# Altium schematic symbol library Schematic Diagrams.SchLib: 350 symbols (part 3 of 9)
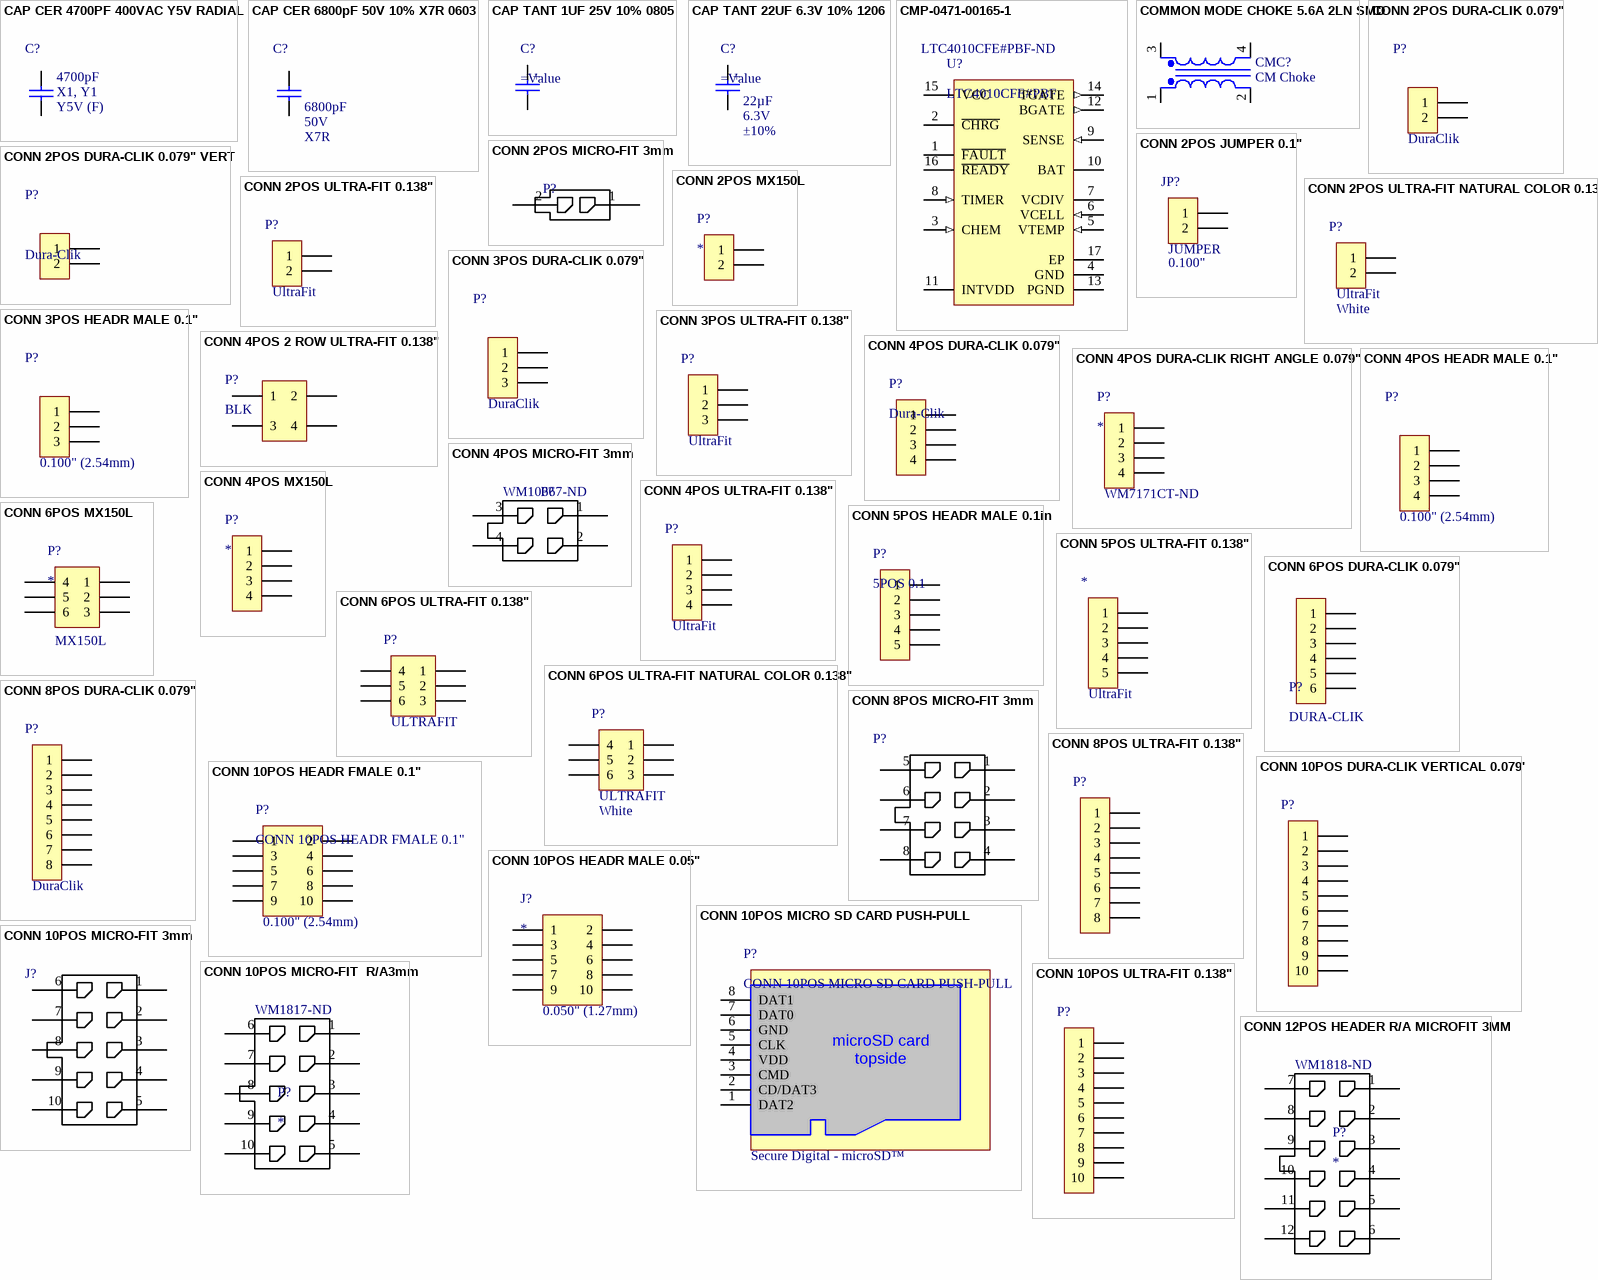
[diagram p13: symbols CAP CER 4700PF 400VAC Y5V RADIAL to CONN 12POS HEADER R/A MICROFIT 3MM]

## CONN 10POS MICRO-FIT 3mm
designator J?  (value not drawn)
Connector Header Through Hole 10 position 0.118" (3.00mm); Manufacturer: Molex, LLC; Manufacturer Part Number: 0430451027; Number of Positions: 10; Number of Positions Loaded: All; Style: Board to Cable/Wire; Shrouding: Shrouded - 4 Wall; Contact Length - Post: 0.125" (3.18mm); Material Flammability Rating: UL94 V-0; Supplier 1: Digi-Key; RoHS: RoHS Compliant; Category: Connectors, Interconnects; Stock 1: 8114; Pricing 1: 1=3.15, 10=2.864, 100=2.455, 500=2.0458, 1224=1.75355, 6120=1.55481 (CAD); Packaging: Tray; Part Status: Active; Connector Type: Header; Contact Type: Male Pin; Pitch - Mating: 0.118" (3.00mm); Number of Rows: 2; Row Spacing - Mating: 0.118" (3.00mm); Mounting Type: Through Hole; Termination: Solder; Fastening Type: Locking Ramp; Contact Length - Mating: -; Overall Contact Length: -; Insulation Height: 0.390" (9.91mm); Contact Shape: Square; Contact Finish - Mating: Tin; Contact Finish Thickness - Mating: 60.0µin (1.52µm); Contact Finish - Post: Tin; Contact Material: Brass; Insulation Material: Liquid Crystal Polymer (LCP), Glass Filled; Features: Board Guide; Operating Temperature: -; Ingress Protection: -; Insulation Color: Black; Current Rating: -; Voltage Rating: -; Mated Stacking Heights: -; Contact Finish Thickness - Post: -; Applications: General Purpose, Medical, Military, Telecommunications; ComponentLink1URL: https://www.molex.com/pdm_docs/sd/430451027_sd.pdf; ComponentLink1Description: https://www.molex.com/pdm_docs/sd/430451027_sd.pdf; Supplier Part Number 1: WM7488-ND
footprint CONN, 10POS MICRO-FIT 3mm
pins: 1, 2, 3, 4, 5, 6, 7, 8, 9, 10

## CONN 10POS MICRO-FIT  R/A3mm
designator P?  Supplier Part Number 1: WM1817-ND
CONN HEADER R/A 10POS 3MM; Manufacturer 1: Molex; Manufacturer Part Number 1: 0430451000; Contact Resistance: 10mR; Number of Positions: 10; Connector Type: Male Pin; Max Voltage Rating (AC): 250V; Row Spacing: 0.118inch; Supplier 1: Digi-Key; RoHS: Yes; Category: Headers and Wire Housings; Stock 1: 2003; Pricing 1: 1=2.57000, 10=2.33100, 100=1.99790, 500=1.66496, 1000=1.42710, 5000=1.26536 (USD); Mount: Through Hole; Color: Black; Contact Plating: Tin; Contact Material: Brass; Housing Color: Black; Housing Material: Polymer; Min Operating Temperature: -40°C; Max Operating Temperature: 105°C; Number of Rows: 2; Packaging: Tray; Termination: Solder; Number of Contacts: 10; Orientation: Right Angle; Fastening Type: Ramp; Length: 19.15mm; Pitch: 3mm; Depth: 12.2mm; Flammability Rating: UL94 V-0; ComponentLink1URL: https://datasheet.ciiva.com/6814/430450202-sd-6814012.pdf?src-supplier=Digi-Key; ComponentLink1Description: https://datasheet.ciiva.com/6814/430450202-sd-6814012.pdf?src-supplier=Digi-Key
footprint CONN, 10POS R/A Microfit
pins: 1, 2, 3, 4, 5, 6, 7, 8, 9, 10

## CONN 10POS ULTRA-FIT 0.138"
designator P?  (value not drawn)
footprint CONN, 10POS ULTRA-FIT
pins: 1, 2, 3, 4, 5, 6, 7, 8, 8 9, 10

## CONN 12POS HEADER R/A MICROFIT 3MM
designator P?  Supplier Part Number 1: WM1818-ND
Conn Power HDR 12 POS 3mm Solder RA Thru-Hole 12 Terminal 1 Port Micro-Fit 3.0™ Tray; Manufacturer 1: Molex; Manufacturer Part Number 1: 0430451200; Contact Resistance: 10mR; Number of Positions: 12; Max Voltage Rating (AC): 250V; Connector Type: Male Pin; Row Spacing: 0.118inch; Supplier 1: Digi-Key; RoHS: Yes; Category: Headers and Wire Housings; Stock 1: 5742; Pricing 1: 1=2.73000, 10=2.62200, 100=2.18500, 500=1.85726, 1000=1.58413, 5000=1.42025 (USD); Mount: Through Hole; Contact Plating: Tin; Contact Material: Brass; Color: Black; Housing Color: Black; Housing Material: Polymer; Min Operating Temperature: -40°C; Max Operating Temperature: 105°C; Number of Rows: 2; Packaging: Tray; Termination: Solder; Number of Contacts: 12; Orientation: Right Angle; Fastening Type: Ramp; Length: 22.15mm; Pitch: 3mm; Depth: 12.2mm; Flammability Rating: UL94 V-0; ComponentLink1URL: https://datasheet.ciiva.com/6814/430450202-sd-6814012.pdf?src-supplier=Digi-Key; ComponentLink1Description: https://datasheet.ciiva.com/6814/430450202-sd-6814012.pdf?src-supplier=Digi-Key
footprint CONN, 12POS R/A Microfit
pins: 1, 2, 3, 4, 5, 6, 7, 8, 9, 10, 11, 12

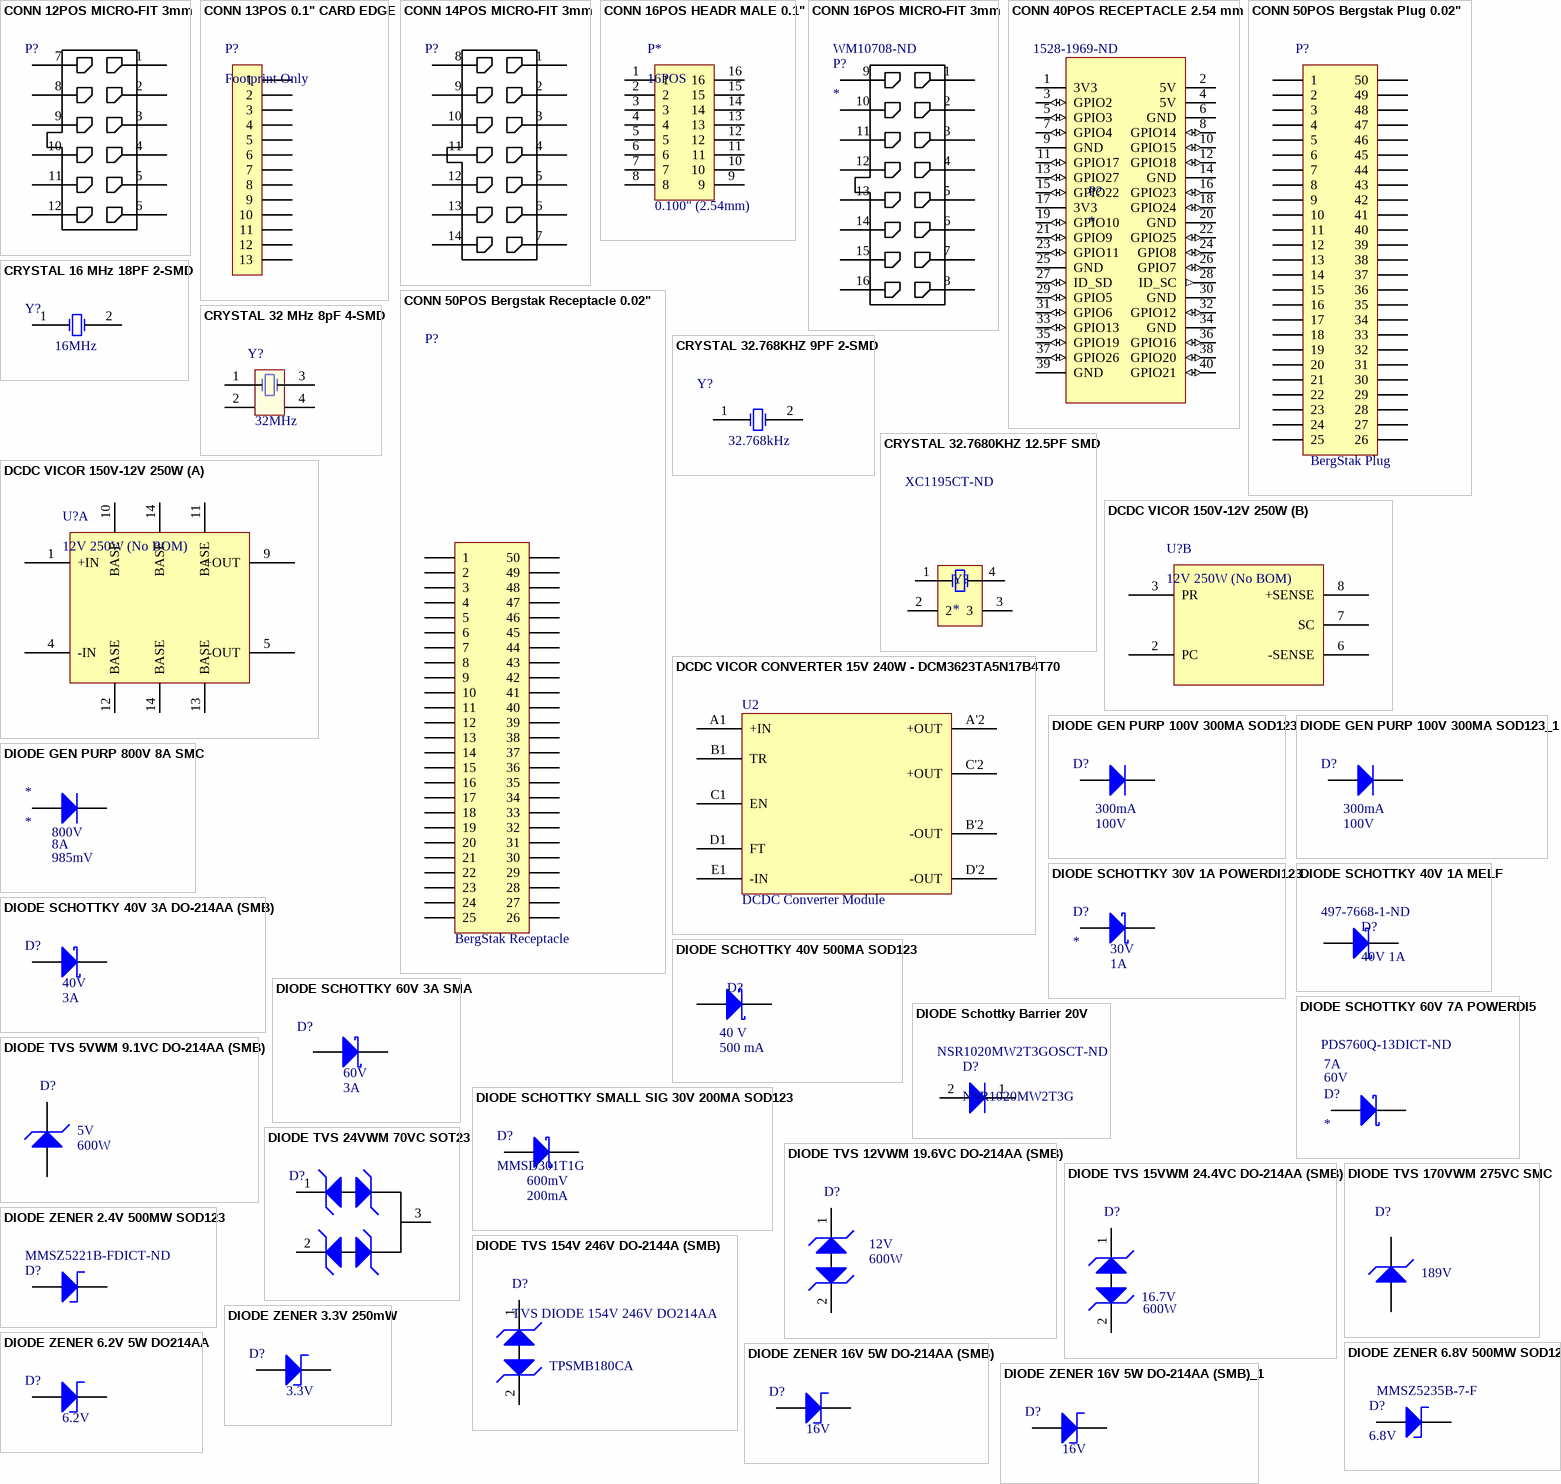
[diagram p2: symbols CONN 12POS MICRO-FIT 3mm to DIODE ZENER 16V 5W DO-214AA (SMB)_1]

## CONN 12POS MICRO-FIT 3mm
designator P?  (value not drawn)
Connector Header Through Hole 12 position 0.118" (3.00mm); Manufacturer: Molex, LLC; Manufacturer Part Number: 0430451227; Number of Positions: 12; Number of Positions Loaded: All; Style: Board to Cable/Wire; Shrouding: Shrouded - 4 Wall; Contact Length - Post: 0.125" (3.18mm); Material Flammability Rating: UL94 V-0; Supplier 1: Digi-Key; RoHS: RoHS Compliant; Category: Connectors, Interconnects; Stock 1: 1709; Pricing 1: 1=3.61, 10=3.283, 25=3.0816, 50=2.9478, 100=2.8138, 250=2.5458, 500=2.34482, 1008=2.00985, 3024=1.87586 (CAD); Packaging: Tray; Part Status: Active; Connector Type: Header; Contact Type: Male Pin; Pitch - Mating: 0.118" (3.00mm); Number of Rows: 2; Row Spacing - Mating: 0.118" (3.00mm); Mounting Type: Through Hole; Termination: Solder; Fastening Type: Locking Ramp; Contact Length - Mating: -; Overall Contact Length: -; Insulation Height: 0.390" (9.91mm); Contact Shape: Square; Contact Finish - Mating: Tin; Contact Finish Thickness - Mating: 60.0µin (1.52µm); Contact Finish - Post: Tin; Contact Material: Brass; Insulation Material: Liquid Crystal Polymer (LCP), Glass Filled; Features: Board Guide; Operating Temperature: -; Ingress Protection: -; Insulation Color: Black; Current Rating: -; Voltage Rating: -; Mated Stacking Heights: -; Contact Finish Thickness - Post: -; Applications: General Purpose, Medical, Military, Telecommunications; ComponentLink1URL: https://www.molex.com/pdm_docs/sd/430451227_sd.pdf; ComponentLink1Description: https://www.molex.com/pdm_docs/sd/430451227_sd.pdf; Supplier Part Number 1: WM10697-ND
footprint CONN, 12POS MICRO-FIT 3mm
pins: 1, 2, 3, 4, 5, 6, 7, 8, 9, 10, 11, 12

## CONN 13POS 0.1" CARD EDGE
designator P?, comment Footprint Only  (no BOM)
footprint CONN 13POS CARD EDGE
pins: 1, 2, 3, 4, 5, 6, 7, 8, 9, 10, 11, 12, 13

## CONN 14POS MICRO-FIT 3mm
designator P?  (value not drawn)
Connector Header Through Hole 14 position 0.118" (3.00mm); Manufacturer: Molex, LLC; Manufacturer Part Number: 0430451427; Number of Positions: 14; Number of Positions Loaded: All; Style: Board to Cable/Wire; Shrouding: Shrouded - 4 Wall; Contact Length - Post: 0.125" (3.18mm); Material Flammability Rating: UL94 V-0; Supplier 1: Digi-Key; RoHS: RoHS Compliant; Category: Connectors, Interconnects; Stock 1: 829; Pricing 1: 1=4.57, 10=4.377, 25=4.0124, 50=3.8296, 100=3.6473, 250=3.1914, 936=2.82666, 1872=2.5531, 2808=2.46192 (CAD); Packaging: Tray; Part Status: Active; Connector Type: Header; Contact Type: Male Pin; Pitch - Mating: 0.118" (3.00mm); Number of Rows: 2; Row Spacing - Mating: 0.118" (3.00mm); Mounting Type: Through Hole; Termination: Solder; Fastening Type: Locking Ramp; Contact Length - Mating: -; Overall Contact Length: -; Insulation Height: 0.390" (9.91mm); Contact Shape: Square; Contact Finish - Mating: Tin; Contact Finish Thickness - Mating: 60.0µin (1.52µm); Contact Finish - Post: Tin; Contact Material: Brass; Insulation Material: Liquid Crystal Polymer (LCP), Glass Filled; Features: Board Guide; Operating Temperature: -; Ingress Protection: -; Insulation Color: Black; Current Rating: -; Voltage Rating: -; Mated Stacking Heights: -; Contact Finish Thickness - Post: -; Applications: General Purpose, Medical, Military, Telecommunications; ComponentLink1URL: https://www.molex.com/pdm_docs/sd/430451427_sd.pdf; ComponentLink1Description: https://www.molex.com/pdm_docs/sd/430451427_sd.pdf; Supplier Part Number 1: WM10707-ND
footprint CONN, 14POS MICRO-FIT 3mm
pins: 1, 2, 3, 4, 5, 6, 7, 8, 9, 10, 11, 12, 13, 14

## CONN 16POS HEADR MALE 0.1"
designator P*, comment 16POS  Pitch - Mating: 0.100" (2.54mm)
CONN HEADER .100" DUAL STR 16POS; Manufacturer 1: Sullins Connector Solutions; Manufacturer Part Number 1: PREC008DAAN-RC; Connector Type: Header, Breakaway; Style: Board to Board or Cable; Shrouding: Unshrouded; Number of Positions: 16; Number of Positions Loaded: All; Contact Length - Mating: 0.230" (5.84mm); Contact Length - Post: 0.120" (3.05mm); Overall Contact Length: 0.448" (11.39mm); Material Flammability Rating: UL94 V-0; Current Rating: 3A per Contact; Supplier 1: Digi-Key; Supplier Part Number 1: S2012EC-08-ND; Packaging: Bulk; Part Status: Active; Contact Type: Male Pin; Number of Rows: 2; Row Spacing - Mating: 0.100" (2.54mm); Mounting Type: Through Hole; Termination: Solder; Fastening Type: -; Insulation Height: 0.098" (2.50mm); Contact Shape: Square; Contact Finish - Mating: Tin; Contact Finish Thickness - Mating: -; Contact Finish - Post: Tin; Contact Material: Brass; Insulation Material: Polybutylene Terephthalate (PBT); Operating Temperature: -40°C ~ 105°C; Ingress Protection: -; Insulation Color: Black; Mated Stacking Heights: -; Contact Finish Thickness - Post: -; ComponentLink1URL: http://sullinscorp.com/drawings/294___R__C_____D___N-RC,_11636.pdf; ComponentLink1Description: http://sullinscorp.com/drawings/294___R__C_____D___N-RC,_11636.pdf; Voltage: -
footprint CONN, 16POS 0.100" Header
pins: 1, 2, 3, 4, 5, 6, 7, 8, 9, 10, 11, 12, 13, 14, 15, 16

## CONN 16POS MICRO-FIT 3mm
designator P?  Supplier Part Number 1: WM10708-ND
Connector Header Through Hole 16 position 0.118"(3.00mm); Manufacturer: Molex; Manufacturer Part Number: 0430451627; Contact Resistance: 10mR; Number of Positions: 16; Number of Ports: 1; Connector Type: Male Pin; Pitch: 3mm; Row Spacing: 0.118inch; Supplier 1: Digi-Key; RoHS: Yes; Stock 1: 4654; Pricing 1: 1 = 3.26000, 10 = 3.12900, 25 = 2.86800, 50 = 2.73780, 100 = 2.60740, 250 = 2.28148, 792 = 2.02073, 1584 = 1.82518, 3168 = 1.75999 (USD); Mount: Through Hole; Color: Black; Contact Material: Brass; Contact Plating: Tin; Number of Terminals: 16; Housing Color: Black; Housing Material: Polymer; Min Operating Temperature: -40°C; Max Operating Temperature: 105°C; Package Quantity: 792; Number of Rows: 2; Fastening Type: Ramp; Packaging: Tray; Termination: Solder; Number of Contacts: 16; Orientation: Straight; Length: 28.15mm; Depth: 8.77mm; ComponentLink1URL: http://www.molex.com/pdm_docs/sd/430451627_sd.pdf; ComponentLink1Description: http://www.molex.com/pdm_docs/sd/430451627_sd.pdf; ComponentLink2URL: http://www.molex.com/webdocs/datasheets/pdf/en-us/0430451627_PCB_HEADERS.pdf; ComponentLink2Description: http://www.molex.com/webdocs/datasheets/pdf/en-us/0430451627_PCB_HEADERS.pdf
footprint CONN, 16POS MICRO-FIT 3MM
pins: 1, 2, 3, 4, 5, 6, 7, 8, 9, 10, 11, 12, 13, 14, 15, 16

## CONN 40POS RECEPTACLE 2.54 mm
designator P?  Supplier Part Number 1: 1528-1969-ND
GPIO HEADER FOR RASPBERRYPI A+/B; Manufacturer: Adafruit Industries; Manufacturer Part Number: 1992; Supplier 1: Digi-Key; Stock 1: 175; Pricing 1: 1=2.95 (USD); ComponentLink1Description: gpio header raspberry pi; ComponentLink1URL: https://www.digikey.ca/product-detail/en/adafruit-industries-llc/1992/1528-1969-ND/6827092
footprint CONN 40POS RECEPTACLE 2.54 MM (gpio header for raspberry pi)
pins: 1 3V3 (power), 2 5V (power), 3 GPIO2 (io), 4 5V (power), 5 GPIO3 (io), 6 GND (power), 7 GPIO4 (io), 8 GPIO14 (io), 9 GND (power), 10 GPIO15 (io), 11 GPIO17 (io), 12 GPIO18 (io), 13 GPIO27 (io), 14 GND (power), 15 GPIO22 (io), 16 GPIO23 (io), 17 3V3 (power), 18 GPIO24 (io), 19 GPIO10 (io), 20 GND (power), 21 GPIO9 (io), 22 GPIO25 (io), 23 GPIO11 (io), 24 GPIO8 (io), 25 GND (power), 26 GPIO7 (io), 27 ID_SD (io), 28 ID_SC (out), 29 GPIO5 (io), 30 GND (power), 31 GPIO6 (io), 32 GPIO12 (io), 33 GPIO13 (io), 34 GND (power), 35 GPIO19 (io), 36 GPIO16 (io), 37 GPIO26 (io), 38 GPIO20 (io), 39 GND (power), 40 GPIO21 (io)

## CONN 50POS Bergstak Plug 0.02"
designator P?  Series: BergStak Plug
50 Position Connector Plug, Outer Shroud Contacts Surface Mount Gold; Manufacturer 1: Amphenol FCI; Manufacturer Part Number 1: 10132797-055100LF; Number of Positions: 50; Mated Stacking Heights: 5mm; Pitch: 0.020" (0.50mm); Supplier 1: Digi-Key; Supplier Part Number 1: 609-5226-1-ND; Packaging: Cut Tape (CT); Part Status: Active; Connector Type: Plug, Outer Shroud Contacts; Number of Rows: 2; Mounting Type: Surface Mount; Contact Finish: Gold; Contact Finish Thickness: 1µin (0.025µm); Height Above Board: 0.169" (4.30mm); ComponentLink1URL: http://portal.fciconnect.com/Comergent//fci/drawing/10132797.pdf; ComponentLink1Description: http://portal.fciconnect.com/Comergent//fci/drawing/10132797.pdf
footprint CONN, Bergstak 50 Pos Plug (Bergstak 50 Position Plug)
pins: 1, 2, 3, 4, 5, 6, 7, 8, 9, 10, 11, 12, 13, 14, 15, 16, 17, 18, 19, 20, 21, 22, 23, 24, 25, 26, 27, 28, 29, 30, 31, 32, 33, 34, 35, 36, 37, 38, 39, 40, 41, 42, 43, 44, 45, 46, 47, 48, 49, 50

## CONN 50POS Bergstak Receptacle 0.02"
designator P?  Series: BergStak Receptacle
50 Position Connector Receptacle, Center Strip Contacts Surface Mount Gold; Manufacturer 1: Amphenol FCI; Manufacturer Part Number 1: 10132798-052100LF; Number of Positions: 50; Mated Stacking Heights: 5mm, 5.5mm, 6mm; Pitch: 0.020" (0.50mm); Supplier 1: Digi-Key; Supplier Part Number 1: 609-5227-1-ND; Packaging: Cut Tape (CT); Part Status: Active; Connector Type: Receptacle, Center Strip Contacts; Number of Rows: 2; Mounting Type: Surface Mount; Contact Finish: Gold; Contact Finish Thickness: 1µin (0.025µm); Height Above Board: 0.106" (2.70mm); ComponentLink1URL: http://portal.fciconnect.com/Comergent//fci/drawing/10132798.pdf; ComponentLink1Description: http://portal.fciconnect.com/Comergent//fci/drawing/10132798.pdf
footprint CONN, Bergstak 50 Pos Receptacle (Bergstak 50 Position Receptacle)
pins: 1, 2, 3, 4, 5, 6, 7, 8, 9, 10, 11, 12, 13, 14, 15, 16, 17, 18, 19, 20, 21, 22, 23, 24, 25, 26, 27, 28, 29, 30, 31, 32, 33, 34, 35, 36, 37, 38, 39, 40, 41, 42, 43, 44, 45, 46, 47, 48, 49, 50

## CRYSTAL 16 MHz 18PF 2-SMD
designator Y?  Frequency: 16MHz  (hidden comment: *)
16MHz ±20ppm Crystal 18pF 40 Ohms 2-SMD, No Lead; Manufacturer: Abracon LLC; Manufacturer Part Number: ABM3-16.000MHZ-D2Y-T; Frequency Stability: ±30ppm; Operating Mode: Fundamental; Supplier 1: Digi-Key; RoHS: RoHS Compliant; Category: Crystals, Oscillators, Resonators; Stock 1: 27142; Pricing 1: 1=1.02, 10=0.858, 50=0.7712, 100=0.6855, 500=0.6512 (CAD); Packaging: Cut Tape (CT); Part Status: Active; Type: MHz Crystal; Frequency Tolerance: ±20ppm; Load Capacitance: 18pF; Operating Temperature: -40°C ~ 85°C; Ratings: -; Mounting Type: Surface Mount; Package / Case: 2-SMD, No Lead; Size / Dimension: 0.197" L x 0.126" W (5.00mm x 3.20mm); Height - Seated (Max): 0.051" (1.30mm); ComponentLink1URL: https://abracon.com/Resonators/abm3.pdf; ComponentLink1Description: https://abracon.com/Resonators/abm3.pdf; Supplier Part Number 1: 535-10638-1-ND
footprint ABM3 CRYSTAL
pins: 1, 2

## CRYSTAL 32 MHz 8pF 4-SMD
designator Y?  Frequency: 32MHz
32MHz ±15ppm Crystal 8pF 50 Ohm -40°C ~ 85°C AEC-Q200 Surface Mount 4-SMD, No Lead; Manufacturer 1: AVX Corp/Kyocera Corp; Manufacturer Part Number 1: CX2520DB32000D0GPSC1; Frequency Stability: ±50ppm; ESR (Equivalent Series Resistance): 50 Ohm; Operating Mode: Fundamental; Supplier 1: Digi-Key; Supplier Part Number 1: 1253-1730-1-ND; Packaging: Cut Tape (CT); Part Status: Active; Type: MHz Crystal; Frequency Tolerance: ±15ppm; Operating Temperature: -40°C ~ 85°C; Ratings: AEC-Q200; Mounting Type: Surface Mount; Package / Case: 4-SMD, No Lead; Size / Dimension: 0.098" L x 0.079" W (2.50mm x 2.00mm); Height - Seated (Max): 0.022" (0.55mm); ComponentLink1URL: http://media.digikey.com/pdf/Data%20Sheets/AVX%20PDFs/CX2520DB_USY1M-H1-16428-00_Spec.pdf; ComponentLink1Description: http://media.digikey.com/pdf/Data%20Sheets/AVX%20PDFs/CX2520DB_USY1M-H1-16428-00_Spec.pdf; Load Capacitance: 8pF
footprint CX2520DB CRYSTAL
pins: 1 OSC1, 2, 3 OSC2, 4 3

## CRYSTAL 32.768KHZ 9PF 2-SMD
designator Y?  Frequency: 32.768kHz
32.768kHz ±20ppm Crystal 6pF 50 kOhm -40°C ~ 85°C Surface Mount 4-SOJ, 5.50mm pitch; Manufacturer 1: Abracon LLC; Manufacturer Part Number 1: ABS07AIG-32.768KHZ-9-1-T; Frequency Tolerance: ±10ppm; Load Capacitance: 9pF; ESR (Equivalent Series Resistance): 70 kOhm; Operating Mode: Fundamental; Supplier 1: Digi-Key; Supplier Part Number 1: 535-13353-1-ND; Packaging: Cut Tape (CT); Part Status: Active; Type: kHz Crystal (Tuning Fork); Frequency Stability: -; Operating Temperature: -40°C ~ 125°C; Ratings: AEC-Q200; Mounting Type: Surface Mount; Package / Case: 2-SMD, No Lead; Size / Dimension: 0.126" L x 0.059" W (3.20mm x 1.50mm); Height - Seated (Max): 0.035" (0.90mm); ComponentLink1URL: http://www.abracon.com/AIGcrystals/ABS07AIG.pdf; ComponentLink1Description: http://www.abracon.com/AIGcrystals/ABS07AIG.pdf
footprint ABS07AIG CRYSTAL
pins: 1, 2

## CRYSTAL 32.7680KHZ 12.5PF SMD
designator Y?  Supplier Part Number 1: XC1195CT-ND
32.768kHz ±20ppm Crystal 12.5pF 50 kOhms 4-SOJ, 5.50mm pitch; Manufacturer: ECS International; Manufacturer Part Number: ECS-.327-12.5-17X-TR; ESR (Equivalent Series Resistance): 50kR; Supplier 1: Digi-Key; Stock 1: 67622; Pricing 1: 1=0.56, 10=0.468, 50=0.4208, 100=0.374, 500=0.3553, 1000=0.2992 (USD); Mount: Surface Mount; Min Operating Temperature: -40°C; Max Operating Temperature: 85°C; Package Quantity: 1; Frequency: 32.768kHz; Frequency Tolerance: 20ppm; Load Capacitance: 12.5pF; Packaging: Tape and Reel; Tolerance: 20ppm; Termination: SMD/SMT; Length: 0.315inch; Height: 0.098inch; Width: 0.15inch; Lead Free: Lead Free; ComponentLink1URL: https://datasheet.ciiva.com/852/ecx-306x-852775.pdf; ComponentLink1Description: https://datasheet.ciiva.com/852/ecx-306x-852775.pdf; ComponentLink2URL: https://datasheet.ciiva.com/852/ecx-306x-852776.pdf; ComponentLink2Description: https://datasheet.ciiva.com/852/ecx-306x-852776.pdf; ComponentLink3URL: https://datasheet.ciiva.com/852/ecx-306x-852777.pdf; ComponentLink3Description: https://datasheet.ciiva.com/852/ecx-306x-852777.pdf
footprint 4-SOJ
pins: 1, 2, 3, 4

## DCDC VICOR 150V-12V 250W
designator U?, comment 12V 250W (No BOM)  (no BOM)
Isolated Module DC DC Converter 1 Output 12V 20.83A 100V - 200V Input; Manufacturer: Vicor Corporation; Manufacturer Part Number: V150B12C250BL; Number of Outputs: 1; Voltage - Isolation: 3kV (3000V); Efficiency: 88.1%; Supplier 1: Digi-Key; RoHS: RoHS non-compliant; Category: Power Supplies - Board Mount; Stock 1: 0; Pricing 1: 1=252.65 (CAD); Packaging: Bulk; Part Status: Active; Type: Isolated Module; Voltage - Input (Min): 100V; Voltage - Input (Max): 200V; Voltage - Output 1: 12V; Voltage - Output 2: -; Voltage - Output 3: -; Current - Output (Max): 20.83A; Applications: ITE (Commercial); Features: OVP, UVLO; Operating Temperature: -20°C ~ 100°C; Mounting Type: Through Hole; Package / Case: 9-DIP Module; Size / Dimension: 2.28" L x 2.20" W x 0.50" H (57.9mm x 55.9mm x 12.7mm); ComponentLink1URL: http://cdn.vicorpower.com/documents/datasheets/ds_150vin-mini-family.pdf; ComponentLink1Description: http://cdn.vicorpower.com/documents/datasheets/ds_150vin-mini-family.pdf; Supplier Part Number 1: 1102-1234-ND
footprint DCDC VICOR 150V-12V 250W
part A pins: 1 +IN, 4 -IN, 5 -OUT, 9 +OUT, 10 BASE, 11 BASE, 12 BASE, 13 BASE, 14 BASE, 14 BASE
part B pins: 2 PC, 3 PR, 6 -SENSE, 7 SC, 8 +SENSE

## DCDC VICOR CONVERTER 15V 240W - DCM3623TA5N17B4T70
designator U2  Type: DCDC Converter Module  (hidden comment: DCDC VICOR CONVERTER 15V 240W - DCM3623TA5N17B4T70)
DC DC CONVERTER 15V 240W; Manufacturer 1: Vicor Corporation; Number of Outputs: 1; Voltage - Input (Min): 154V; Voltage - Input (Max): 43V; Current - Output (Max): 16A; Efficiency: 92.1%; Supplier 1: Digi-Key; Supplier Part Number 1: 1470-2950-1-ND; Packaging: Cut Tape (CT); Part Status: Active; Voltage - Output 1: 15V; Voltage - Output 2: -; Voltage - Output 3: -; Operating Temperature: -40°C ~ 105°C; Mounting Type: Surface Mount; Package / Case: 9-DIP Module; Size / Dimension: 1.52" L x 0.90" W x 0.28" H (38.72mm x 22.8mm x 7.2mm); ComponentLink1URL: http://www.vicorpower.com/documents/datasheets/DCM3623xA5N17B4y7z_ds.pdf; ComponentLink1Description: http://www.vicorpower.com/documents/datasheets/DCM3623xA5N17B4y7z_ds.pdf; Power: 240W; Manufacturer Part Number 1: DCM3623TA5N17B4T70
footprint IC, DCDC converter DCM3623TA5N17B4T70
pins: A1 +IN, A'2 +OUT, B1 TR, B'2 -OUT, C1 EN, C'2 +OUT, D1 FT, D'2 -OUT, E1 -IN

## DIODE GEN PURP 100V 300MA SOD123
designator D?  Max Repetitive Reverse Voltage (Vrrm): 100V  Forward Current: 300mA  (hidden comment: *)
Diode Standard 100V 300mA (DC) Surface Mount SOD-123; Manufacturer: Diodes Zetex; Manufacturer Part Number: 1N4148WQ-7-F; Max Surge Current: 2A; Forward Voltage: 1.25V; Element Configuration: Single; Recovery Time: 4ns; Peak Reverse Current: 50uA; Max Power Dissipation: 400mW; Supplier 1: Digi-Key; Stock 1: 229; Pricing 1: 1=0.22, 10=0.196, 100=0.107, 500=0.0658, 1000=0.0449 (USD); Mount: Surface Mount; Case/Package: SOD-123-2; Number of Pins: 2; Weight: 0.000353oz; Contact Plating: Tin,Matte; Min Operating Temperature: -65°C; Max Operating Temperature: 150°C; Packaging: Tape and Reel; Peak Non-Repetitive Surge Current: 2A; Package Quantity: 3000; Reverse Recovery Time: 4ns; Lead Free: Lead Free; ComponentLink1URL: http://components.arrow.com/part/dataview/0323_07206809; ComponentLink1Description: http://components.arrow.com/part/dataview/0323_07206809; ComponentLink2URL: http://www.diodes.com/datasheets/ds30086.pdf; ComponentLink2Description: http://www.diodes.com/datasheets/ds30086.pdf; ComponentLink3URL: http://www.mouser.com/ds/2/115/ds30086-318161.pdf; ComponentLink3Description: http://www.mouser.com/ds/2/115/ds30086-318161.pdf; Supplier Part Number 1: 1N4148WQ-7-FDICT-ND
footprint DIODE GEN PURP 100V 300MA SOD123 (Diode Standard 100V 300mA (DC) Surface Mount SOD-123)
pins: 1 A, 2 K

## DIODE GEN PURP 100V 300MA SOD123_1
designator D?  Max Repetitive Reverse Voltage (Vrrm): 100V  Forward Current: 300mA  (hidden comment: *)
Diode Standard 100V 300mA (DC) Surface Mount SOD-123; Manufacturer: Diodes Zetex; Manufacturer Part Number: 1N4148WQ-7-F; Max Surge Current: 2A; Forward Voltage: 1.25V; Element Configuration: Single; Recovery Time: 4ns; Peak Reverse Current: 50uA; Max Power Dissipation: 400mW; Supplier 1: Digi-Key; Stock 1: 229; Pricing 1: 1=0.22, 10=0.196, 100=0.107, 500=0.0658, 1000=0.0449 (USD); Mount: Surface Mount; Case/Package: SOD-123-2; Number of Pins: 2; Weight: 0.000353oz; Contact Plating: Tin,Matte; Min Operating Temperature: -65°C; Max Operating Temperature: 150°C; Packaging: Tape and Reel; Peak Non-Repetitive Surge Current: 2A; Package Quantity: 3000; Reverse Recovery Time: 4ns; Lead Free: Lead Free; ComponentLink1URL: http://components.arrow.com/part/dataview/0323_07206809; ComponentLink1Description: http://components.arrow.com/part/dataview/0323_07206809; ComponentLink2URL: http://www.diodes.com/datasheets/ds30086.pdf; ComponentLink2Description: http://www.diodes.com/datasheets/ds30086.pdf; ComponentLink3URL: http://www.mouser.com/ds/2/115/ds30086-318161.pdf; ComponentLink3Description: http://www.mouser.com/ds/2/115/ds30086-318161.pdf; Supplier Part Number 1: 1N4148WQ-7-FDICT-ND
footprint DIODE GEN PURP 100V 300MA SOD123 (Diode Standard 100V 300mA (DC) Surface Mount SOD-123)
pins: 1 A, 2 K

## DIODE GEN PURP 800V 8A SMC
designator *  Forward Voltage: 985mV  Max Reverse Voltage (DC): 800V  Forward Current: 8A
Manufacturer: Diodes; Manufacturer Part Number: S8KC-13; Peak Reverse Current: 10uA; Max Surge Current: 200A; Element Configuration: Single; Supplier 1: Digi-Key; Stock 1: 38298; Pricing 1: 1=0.68, 10=0.598, 100=0.4586, 500=0.36256, 1000=0.29005 (USD); Mount: Surface Mount; Case/Package: SMC; Number of Pins: 2; Weight: 0.007408oz; Contact Plating: Tin,Matte; Min Operating Temperature: -65°C; Max Operating Temperature: 150°C; Packaging: Tape and Reel; Package Quantity: 3000; Reverse Voltage (DC): 800V; Average Rectified Current: 8A; Max Repetitive Reverse Voltage (Vrrm): 800V; Peak Non-Repetitive Surge Current: 200A; Max Forward Surge Current (Ifsm): 200A; Length: 7.11mm; Height: 2.42mm; Width: 6.22mm; Radiation Hardening: No; Lead Free: Lead Free; ComponentLink1URL: https://datasheet.ciiva.com/15144/getdatasheetpartid-61102-15144323.pdf; ComponentLink1Description: https://datasheet.ciiva.com/15144/getdatasheetpartid-61102-15144323.pdf; ComponentLink2URL: https://datasheet.ciiva.com/16388/ds31117-16388346.pdf; ComponentLink2Description: https://datasheet.ciiva.com/16388/ds31117-16388346.pdf; ComponentLink3URL: https://datasheet.ciiva.com/914/ds31117-914779.pdf; ComponentLink3Description: https://datasheet.ciiva.com/914/ds31117-914779.pdf; ComponentLink4URL: https://datasheet.ciiva.com/4453/ds31117-63855-4453947.pdf; ComponentLink4Description: https://datasheet.ciiva.com/4453/ds31117-63855-4453947.pdf; Supplier Part Number 1: S8KCDICT-ND
footprint DIODE, SMC
pins: 1 K, 2 A

## DIODE SCHOTTKY 30V 1A POWERDI123
designator D?  Current - Average Rectified (Io): 1A  Voltage - DC Reverse (Vr) (Max): 30V
Diode Schottky 30V 1A Surface Mount PowerDI™ 123; Manufacturer: Diodes Incorporated; Manufacturer Part Number: DFLS130L-7; Speed: Fast Recovery =< 500ns, > 200mA (Io); Current - Reverse Leakage @ Vr: 1mA @ 30V; Capacitance @ Vr, F: 76pF @ 10V, 1MHz; Voltage - Forward (Vf) (Max) @ If: 310mV @ 1A; Supplier 1: Digi-Key; RoHS: RoHS Compliant; Category: Discrete Semiconductor Products; Stock 1: 68200; Packaging: Cut Tape (CT); Part Status: Active; Diode Type: Schottky; Mounting Type: Surface Mount; Package / Case: POWERDI®123; Supplier Device Package: PowerDI™ 123; Operating Temperature - Junction: -40°C ~ 125°C; ComponentLink1URL: https://www.diodes.com/assets/Datasheets/ds30492.pdf; ComponentLink1Description: https://www.diodes.com/assets/Datasheets/ds30492.pdf; Supplier Part Number 1: DFLS130LDICT-ND; Pricing 1: 1=0.7, 10=0.599, 100=0.447, 500=0.35126, 1000=0.27142 (CAD)
footprint DIODE SCHOTTKY 30V 1A POWERDI123 (Diodes Incorporated DFLS130L-7)
pins: 1 A, 2 K

## DIODE SCHOTTKY 40V 1A MELF
designator D?, comment 40V 1A  Supplier Part Number 1: 497-7668-1-ND
Diode Schottky 40V 1A Surface Mount MELF; Supplier 1: Digi-Key; ComponentLink1Description: datasheet; ComponentLink1URL: https://www.st.com/content/ccc/resource/technical/document/datasheet/93/3a/6a/2f/b2/cc/4d/48/CD00000811.pdf/files/CD00000811.pdf/jcr:content/translations/en.CD00000811.pdf
footprint MELF
pins: 1 A, 2 K

## DIODE SCHOTTKY 40V 3A DO-214AA (SMB)
designator D?  Voltage - DC Reverse (Vr) (Max): 40V  Current - Average Rectified (Io): 3A
Diode Schottky 40V 3A Surface Mount DO-214AA (SMB); Manufacturer 1: Comchip Technology; Manufacturer Part Number 1: CDBB340-HF; Voltage - Forward (Vf) (Max) @ If: 500mV @ 3A; Speed: Fast Recovery =< 500ns, > 200mA (Io); Current - Reverse Leakage @ Vr: 500µA @ 40V; Capacitance @ Vr, F: 250pF @ 4V, 1MHz; Supplier 1: Digi-Key; Supplier Part Number 1: 641-1722-1-ND; Packaging: Cut Tape (CT); Part Status: Active; Diode Type: Schottky; Mounting Type: Surface Mount; Package / Case: DO-214AA, SMB; Supplier Device Package: DO-214AA (SMB); Operating Temperature - Junction: -40°C ~ 70°C; ComponentLink1URL: http://www.comchiptech.com/cms/UserFiles/CDBB340-HF%20Thru849517.%20CDBB3100-HF%20RevE.pdf; ComponentLink1Description: http://www.comchiptech.com/cms/UserFiles/CDBB340-HF%20Thru849517.%20CDBB3100-HF%20RevE.pdf
footprint DO-214AA Diode (Zener Diode 16V 5W SMBJ5353B-TP)
pins: 1 A, 2 K

## DIODE SCHOTTKY 40V 500MA SOD123
designator D?  (value not drawn)
Diode Schottky 40V 500mA Surface Mount SOD-123; Manufacturer: ON Semiconductor / Fairchild; Manufacturer Part Number: MBR0540; Peak Reverse Current: 20uA; Max Surge Current: 5.5A; Forward Voltage: 620mV; Power Dissipation: 400mW; Element Configuration: Single; Polarity: Standard; Current Rating: 500A; ComponentLink1Description: datasheet; ComponentLink1URL: https://www.onsemi.cn/PowerSolutions/document/MBR0540-D.pdf; ComponentLink2Description: supplier link; ComponentLink2URL: https://www.onsemi.com/PowerSolutions/product.do?id=MBR0540; Supplier 1: Digi-Key; Stock 1: 414620; Pricing 1: 1=0.2, 10=0.166, 100=0.0881, 500=0.05794, 1000=0.0394 (USD); Mount: Surface Mount; Number of Pins: 2; Weight: 0.03g; Contact Plating: Tin,Matte; Min Operating Temperature: -65°C; Max Operating Temperature: 125°C; Forward Current: 500mA; Package Quantity: 3000; Packaging: Tape and Reel; Average Rectified Current: 500mA; Max Reverse Leakage Current: 20uA; Max Repetitive Reverse Voltage (Vrrm): 40V; Peak Non-Repetitive Surge Current: 5.5A; Max Forward Surge Current (Ifsm): 5.5A; Voltage Rating (DC): 40V; Output Current: 500mA; Max Reverse Voltage (DC): 40V; Length: 2.7mm; Height: 1.03mm; Width: 1.6mm; Radiation Hardening: No; REACH SVHC: No SVHC; Lead Free: Lead Free; ComponentLink3URL: https://www.fairchildsemi.com/datasheets/MB/MBR0540.pdf?src-supplier=Digi-Key; ComponentLink3Description: https://www.fairchildsemi.com/datasheets/MB/MBR0540.pdf?src-supplier=Digi-Key; ComponentLink4URL: https://www.onsemi.cn/PowerSolutions/document/MBR0540-D.pdf?src-supplier=Digi-Key; ComponentLink4Description: https://www.onsemi.cn/PowerSolutions/document/MBR0540-D.pdf?src-supplier=Digi-Key; ComponentLink5URL: http://www.jameco.com/Jameco/Products/ProdDS/975060.pdf?src-supplier=Jameco; ComponentLink5Description: http://www.jameco.com/Jameco/Products/ProdDS/975060.pdf?src-supplier=Jameco; ComponentLink6URL: http://www.mouser.com/ds/2/149/MBR0540-90522.pdf?src-supplier=Mouser; ComponentLink6Description: http://www.mouser.com/ds/2/149/MBR0540-90522.pdf?src-supplier=Mouser; ComponentLink7URL: https://www.verical.com/server-webapp/html/getDatasheet?partID=110131&src-supplier=Verical; ComponentLink7Description: https://www.verical.com/server-webapp/html/getDatasheet?partID=110131&src-supplier=Verical; ComponentLink8URL: http://www.farnell.com/datasheets/2041480.pdf?src-supplier=Element14; ComponentLink8Description: http://www.farnell.com/datasheets/2041480.pdf?src-supplier=Element14; ComponentLink9URL: https://www.fairchildsemi.com/datasheets/MB/MBR0540.pdf?src-supplier=Avnet; ComponentLink9Description: https://www.fairchildsemi.com/datasheets/MB/MBR0540.pdf?src-supplier=Avnet; Supplier Part Number 1: MBR0540DKR-ND
footprint SOD123 (SODFL, 2-Leads, Body 1.60x3.75mm, IPC Medium Density)
pins: 1 A, 2 K
text: 40 V; 500 mA

## DIODE SCHOTTKY 60V 3A SMA
designator D?  Voltage - DC Reverse (Vr) (Max): 60V  Current - Average Rectified (Io): 3A
Diode Schottky 60V 3A Surface Mount SMA; Manufacturer 1: Diodes Incorporated; Manufacturer Part Number 1: B360A-13-F; Voltage - Forward (Vf) (Max) @ If: 700mV @ 3A; Speed: Fast Recovery =< 500ns, > 200mA (Io); Current - Reverse Leakage @ Vr: 500µA @ 60V; Capacitance @ Vr, F: 200pF @ 4V, 1MHz; Supplier 1: Digi-Key; Supplier Part Number 1: B360A-FDICT-ND; Packaging: Cut Tape (CT); Part Status: Active; Diode Type: Schottky; Mounting Type: Surface Mount; Package / Case: DO-214AC, SMA; Supplier Device Package: SMA; Operating Temperature - Junction: -55°C ~ 150°C; ComponentLink1URL: https://www.diodes.com/assets/Datasheets/ds30891.pdf; ComponentLink1Description: https://www.diodes.com/assets/Datasheets/ds30891.pdf
footprint Diode, SMA
pins: 1, 2

## DIODE SCHOTTKY 60V 7A POWERDI5
designator D?  Current - Average Rectified (Io): 7A  Supplier Part Number 2: PDS760Q-13DICT-ND  Voltage: 60V
Diode Schottky 60V 7A Surface Mount PowerDI™ 5; Manufacturer: Diodes Incorporated; Manufacturer Part Number: PDS760Q-13; Speed: Fast Recovery =< 500ns, > 200mA (Io); Supplier 1: Digi-Key; RoHS: RoHS Compliant; Category: Discrete Semiconductor Products; Stock 1: 35000; Pricing 1: 5000=0.48794, 10000=0.4696 (CAD); Packaging: Tape & Reel (TR); Part Status: Active; Diode Type: Schottky; Capacitance @ Vr, F: -; Mounting Type: Surface Mount; Package / Case: PowerDI™ 5; Supplier Device Package: PowerDI™ 5; Operating Temperature - Junction: -65°C ~ 150°C; ComponentLink1URL: https://www.diodes.com/assets/Datasheets/PDS760Q.pdf; ComponentLink1Description: https://www.diodes.com/assets/Datasheets/PDS760Q.pdf; Supplier 2: Digi-Key; Stock 2: 36638; Pricing 2: 1=1.24, 10=1.115, 100=0.8692, 500=0.71798, 1000=0.56682 (CAD)
footprint DIODE SCHOTTKY 60V 7A POWERDI5 (Diode Schottky 60V 7A Surface Mount PowerDI™ 5)
pins: 1, 2

## DIODE Schottky Barrier 20V
designator D?, comment NSR1020MW2T3G  Supplier Part Number 1: NSR1020MW2T3GOSCT-ND
Schottky Barrier Diode, 2-Pin SOD-323, Pb-Free, Tape and Reel; Manufacturer: On Semiconductor; IFSM Max (A): 5; Configuration: Single; PartNumber: NSR1020MW2T3G; RoHS: TRUE; ComponentLink2Description: Datasheet; PackageVersion: Rev. H, 03/2007; ComponentLink3Description: Package Specification; ComponentLink1Description: Manufacturer URL; DatasheetVersion: Rev. 1; PackageDescription: 2-Pin SOD, Body 1.7 x 1.25 mm; ComponentLink2URL: http://www.onsemi.cn/pub_link/Collateral/NSR1020MW2T1-D.PDF; Packing: Tape and Reel; ComponentLink3URL: http://www.onsemi.com/pub_link/Collateral/477-02.PDF.1; PackageReference: SOD-323-2-477-02; ComponentLink1URL: http://www.onsemi.com/; Mounting Technology: Surface Mount; Supplier 1: Digi-Key
footprint ONSC-SOD-323-2-477-02_V (SOD, 2-Leads, Body 1.7x1.25mm)
pins: 1 K, 2 A

## DIODE SCHOTTKY SMALL SIG 30V 200MA SOD123
designator D?, comment MMSD301T1G  Forward Voltage: 600mV  Forward Current: 200mA
Diode Schottky 30V 200mA (DC) Surface Mount SOD-123; Manufacturer 1: ON Semiconductor; Description 1: DIODE SCHOTTKY 30V 200MA SOD123; Polarity: Standard; Current Rating: 100mA; Peak Reverse Current: 200nA; Max Forward Surge Current (Ifsm): 1A; Power Dissipation: 225mW; Element Configuration: Single; Supplier 1: Digi-Key; Supplier Part Number 1: MMSD301T1GOSCT-ND; Manufacturer Part Number 1: MMSD301T1G; Stock 1: 23461; Pricing 1: 1=0.37, 10=0.301, 100=0.1597, 500=0.1051, 1000=0.0714 (USD); Case/Package: SOD-123-2; Number of Pins: 2; Contact Plating: Tin,Matte; Min Operating Temperature: -55°C; Max Operating Temperature: 125°C; Packaging: Tape and Reel; Voltage Rating (DC): 30V; Output Current: 200mA; Package Quantity: 3000; Max Reverse Leakage Current: 200nA; Reverse Voltage (DC): 30V; Average Rectified Current: 200mA; Max Repetitive Reverse Voltage (Vrrm): 30V; Termination: SMD/SMT; Max Reverse Voltage (DC): 30V; Length: 2.84mm; Height: 1.25mm; Width: 1.8mm; Radiation Hardening: No; REACH SVHC: No SVHC; Lead Free: Lead Free; ComponentLink1URL: https://datasheet.ciiva.com/927/mmsd301t1-d-927472.pdf; ComponentLink1Description: https://datasheet.ciiva.com/927/mmsd301t1-d-927472.pdf; ComponentLink2URL: https://datasheet.ciiva.com/5763/85966-5763040.pdf; ComponentLink2Description: https://datasheet.ciiva.com/5763/85966-5763040.pdf; ComponentLink3URL: https://datasheet.ciiva.com/915/mmsd301t1-d-915476.pdf; ComponentLink3Description: https://datasheet.ciiva.com/915/mmsd301t1-d-915476.pdf; ComponentLink4URL: https://datasheet.ciiva.com/915/mmsd301t1-d-915477.pdf; ComponentLink4Description: https://datasheet.ciiva.com/915/mmsd301t1-d-915477.pdf; ComponentLink5URL: https://datasheet.ciiva.com/915/mmsd301t1-d-915478.pdf; ComponentLink5Description: https://datasheet.ciiva.com/915/mmsd301t1-d-915478.pdf; ComponentLink6URL: https://datasheet.ciiva.com/25947/mmsd301t1-d-25947942.pdf; ComponentLink6Description: https://datasheet.ciiva.com/25947/mmsd301t1-d-25947942.pdf; ComponentLink7URL: https://datasheet.ciiva.com/8299/mmsd301t1-d-8299881.pdf; ComponentLink7Description: https://datasheet.ciiva.com/8299/mmsd301t1-d-8299881.pdf; ComponentLink8URL: https://datasheet.ciiva.com/16215/mmsd301t1-d-16215580.pdf; ComponentLink8Description: https://datasheet.ciiva.com/16215/mmsd301t1-d-16215580.pdf
footprint DIODE SOD123
pins: 1, 2

## DIODE TVS 5VWM 9.1VC DO-214AA (SMB)
designator D?  Voltage - Reverse Standoff (Typ): 5V  Power - Peak Pulse: 600W  (hidden comment: *)
TVS DIODE 5V 9.1V DO214AA; Manufacturer: Vishay Semiconductor Diodes Division; Manufacturer Part Number: SMBJ5.0D-M3/H; Type: Zener; Voltage - Breakdown (Min): 6.5V; Current - Peak Pulse (10/1000µs): 65.9A; Power Line Protection: No; Supplier 1: Digi-Key; RoHS: RoHS Compliant; Category: Circuit Protection; Stock 1: 6900; Pricing 1: 1=0.51, 10=0.416, 25=0.3808, 100=0.2833, 250=0.25668 (CAD); Packaging: Cut Tape (CT); Part Status: Active; Voltage - Clamping (Max) @ Ipp: 9.1V; Applications: General Purpose; Capacitance @ Frequency: -; Operating Temperature: -55°C ~ 150°C (TJ); Mounting Type: Surface Mount; Package / Case: DO-214AA, SMB; Supplier Device Package: DO-214AA (SMBJ); ComponentLink1URL: http://www.vishay.com/docs/87606/87606.pdf; ComponentLink1Description: http://www.vishay.com/docs/87606/87606.pdf; Supplier Part Number 1: SMBJ5.0D-M3/HGICT-ND
footprint DO-214AA Diode (Zener Diode 16V 5W SMBJ5353B-TP)
pins: 1, 2

## DIODE TVS 12VWM 19.6VC DO-214AA (SMB)
designator D?  Voltage - Reverse Standoff (Typ): 12V  Power - Peak Pulse: 600W  (hidden comment: *)
TVS DIODE 12V 19.6V DO214AA; Manufacturer: Vishay Semiconductor Diodes Division; Manufacturer Part Number: SMBJ12CD-M3/H; Type: Zener; Voltage - Breakdown (Min): 13.5V; Current - Peak Pulse (10/1000µs): 30.6A; Power Line Protection: No; Supplier 1: Digi-Key; RoHS: RoHS Compliant; Category: Circuit Protection; Stock 1: 4469; Pricing 1: 1=0.69, 10=0.565, 25=0.516, 100=0.3841, 250=0.34808 (CAD); Packaging: Cut Tape (CT); Part Status: Active; Voltage - Clamping (Max) @ Ipp: 19.6V; Applications: General Purpose; Capacitance @ Frequency: -; Operating Temperature: -55°C ~ 150°C (TJ); Mounting Type: Surface Mount; Package / Case: DO-214AA, SMB; Supplier Device Package: DO-214AA (SMBJ); ComponentLink1URL: http://www.vishay.com/docs/87606/87606.pdf; ComponentLink1Description: http://www.vishay.com/docs/87606/87606.pdf; Supplier Part Number 1: SMBJ12CD-M3/HGICT-ND
footprint DO-214AA Diode (Zener Diode 16V 5W SMBJ5353B-TP)
pins: 1 Cathode1, 2 Cathode2

## DIODE TVS 15VWM 24.4VC DO-214AA (SMB)
designator D?  Voltage - Breakdown (Min): 16.7V  Power - Peak Pulse: 600W  (hidden comment: *)
TVS DIODE 15VWM 24.4VC SMB; Manufacturer 1: Fairchild/ON Semiconductor; Manufacturer Part Number 1: SMBJ15CA; Type: Zener; Voltage - Reverse Standoff (Typ): 15V; Voltage - Clamping (Max) @ Ipp: 24.4V; Current - Peak Pulse (10/1000µs): 24.6A; Power Line Protection: No; Supplier 1: Digi-Key; Supplier Part Number 1: SMBJ15CAFSCT-ND; RoHS: RoHS Compliant; Description 1: TVS DIODE 15VWM 24.4VC SMB; Category: Circuit Protection; Stock 1: 24965; Pricing 1: 1=0.54, 10=0.444, 100=0.3027, 500=0.22704, 1000=0.17028 (CAD); Packaging: Cut Tape (CT); Part Status: Active; Applications: General Purpose; Capacitance @ Frequency: -; Operating Temperature: -55°C ~ 150°C (TJ); Mounting Type: Surface Mount; Package / Case: DO-214AA, SMB; Supplier Device Package: DO-214AA (SMB); ComponentLink1URL: https://www.fairchildsemi.com/datasheets/SM/SMBJ10CA.pdf; ComponentLink1Description: https://www.fairchildsemi.com/datasheets/SM/SMBJ10CA.pdf
footprint DO-214AA Diode (Zener Diode 16V 5W SMBJ5353B-TP)
pins: 1 Cathode1, 2 Cathode2

## DIODE TVS 24VWM 70VC SOT23
designator D?
TVS DIODE 24VWM 70VC SOT23; Manufacturer 1: Nexperia USA Inc.; Manufacturer Part Number 1: PESD1CAN,215; Type: Zener; Voltage - Breakdown (Min): 25.4V; Voltage - Clamping (Max) @ Ipp: 70V; Current - Peak Pulse (10/1000µs): 3A (8/20µs); Power - Peak Pulse: 200W; Power Line Protection: No; Capacitance @ Frequency: 11pF @ 1MHz; Supplier 1: Digi-Key; Supplier Part Number 1: 1727-3817-1-ND; Packaging: Cut Tape (CT); Part Status: Active; Operating Temperature: -65°C ~ 150°C (TA); Mounting Type: Surface Mount; Package / Case: TO-236-3, SC-59, SOT-23-3; Supplier Device Package: SOT-23 (TO-236AB); ComponentLink1URL: http://assets.nexperia.com/documents/data-sheet/PESD1CAN.pdf; ComponentLink1Description: http://assets.nexperia.com/documents/data-sheet/PESD1CAN.pdf
footprint MOSFET P-CH 30V 3.8A SOT-23 (SOT23, 3-Leads, Body 2.85x2.40mm, Pitch 0.90mm, IPC Medium Density)
pins: 1 Cathode1, 2 Cathode2, 3 Common_Cathode (power)

## DIODE TVS 154V 246V DO-2144A (SMB)
designator D?, comment TVS DIODE 154V 246V DO214AA  Manufacturer Part Number: TPSMB180CA
Manufacturer: Littelfuse; Supplier 1: Digi-Key; Stock 1: 2900; Pricing 1: 1=0.84, 10=0.734, 25=0.6504, 100=0.5664, 250=0.493, 500=0.41958, 1000=0.33566 (USD); Supplier Part Number 1: F10356CT-ND
footprint DIODE TVS TPSMB 600W DO-214AA SMB (Littlefuse TPSMB)
pins: 1 Cathode1, 2 Cathode2

## DIODE TVS 170VWM 275VC SMC
designator D?  Voltage - DC Reverse (Vr) (Max): 189V
TVS DIODE 170VWM 275VC SMC; Manufacturer 1: Diodes Incorporated; Manufacturer Part Number 1: B360A-13-F; Diode Type: Schottky; Voltage - Forward (Vf) (Max) @ If: 700mV @ 3A; Speed: Fast Recovery =< 500ns, > 200mA (Io); Current - Reverse Leakage @ Vr: 500µA @ 60V; Capacitance @ Vr, F: 200pF @ 4V, 1MHz; Type: Zener; Voltage - Reverse Standoff (Typ): 170V; Voltage - Clamping (Max) @ Ipp: 275V; Current - Peak Pulse (10/1000µs): 5.5A; Power - Peak Pulse: 1500W (1.5kW); Power Line Protection: No; Supplier 1: Digi-Key; Supplier Part Number 1: B360A-FDICT-ND; Packaging: Cut Tape (CT); Part Status: Active; Mounting Type: Surface Mount; Package / Case: DO-214AC, SMA; Supplier Device Package: SMA; Operating Temperature - Junction: -55°C ~ 150°C; ComponentLink1URL: https://www.diodes.com/assets/Datasheets/ds30891.pdf; ComponentLink1Description: https://www.diodes.com/assets/Datasheets/ds30891.pdf; Supplier 2: Digi-Key; Supplier Part Number 2: SMCJ170A-FDICT-ND; Manufacturer 2: Diodes Incorporated; Manufacturer Part Number 2: SMCJ170A-13-F; RoHS: RoHS Compliant; Description 2: TVS DIODE 170VWM 275VC SMC; Category: Circuit Protection; Stock 2: 8020; Pricing 2: 1=0.97, 10=0.827, 100=0.6174, 500=0.48508, 1000=0.37484 (CAD); Voltage - Breakdown (Min): 189V; Applications: General Purpose; Capacitance @ Frequency: -; Operating Temperature: -55°C ~ 150°C (TJ); ComponentLink2URL: https://www.diodes.com/assets/Datasheets/ds19003.pdf; ComponentLink2Description: https://www.diodes.com/assets/Datasheets/ds19003.pdf
footprint DIODE, SMC
pins: 1, 2

## DIODE ZENER 2.4V 500MW SOD123
designator D?  Supplier Part Number 1: MMSZ5221B-FDICT-ND
Zener Diode 2.4V 500mW ±5% Surface Mount SOD-123; Manufacturer 1: Diodes; Manufacturer Part Number 1: MMSZ5221B-7-F; Max Reverse Leakage Current: 100uA; Element Configuration: Single; Forward Voltage: 900mV; Impedance: 30R; Test Current: 20mA; Supplier 1: Digi-Key; Stock 1: 37190; Pricing 1: 1=0.19000, 10=0.17800, 100=0.07440, 500=0.05840, 1000=0.04056 (USD); RoHS: Yes; Mount: Surface Mount; Case/Package: SOD-123-2; Number of Pins: 2; Weight: 0.000353oz; Min Operating Temperature: -65°C; Max Operating Temperature: 150°C; Max Power Dissipation: 500mW; Zener Voltage: 2.4V; Packaging: Tape and Reel; Package Quantity: 3000; Tolerance: 5%; Voltage Tolerance: 5%; Power Dissipation: 500mW; Zener Current: 100uA; Working Voltage: 2.4V; Peak Reverse Current: 100uA; Termination: SMD/SMT; Power Rating: 500mW; Voltage Rating (DC): 2.4V; Length: 3.85mm; Height: 1.35mm; Width: 1.7mm; Radiation Hardening: No; Lead Free: Lead Free; ComponentLink1URL: https://datasheet.ciiva.com/34302/1541079-34302404.pdf?src-supplier=Jameco; ComponentLink1Description: https://datasheet.ciiva.com/34302/1541079-34302404.pdf?src-supplier=Jameco; ComponentLink2URL: https://datasheet.ciiva.com/15142/getdatasheetpartid-61111-15142284.pdf?src-supplier=Verical; ComponentLink2Description: https://datasheet.ciiva.com/15142/getdatasheetpartid-61111-15142284.pdf?src-supplier=Verical; ComponentLink3URL: https://datasheet.ciiva.com/4734/ds18010-38133-4734214.pdf?src-supplier=Mouser; ComponentLink3Description: https://datasheet.ciiva.com/4734/ds18010-38133-4734214.pdf?src-supplier=Mouser; ComponentLink4URL: https://datasheet.ciiva.com/890/ds18010-890793.pdf?src-supplier=Digi-Key; ComponentLink4Description: https://datasheet.ciiva.com/890/ds18010-890793.pdf?src-supplier=Digi-Key; ComponentLink5URL: https://datasheet.ciiva.com/890/ds18010-890794.pdf?src-supplier=Digi-Key; ComponentLink5Description: https://datasheet.ciiva.com/890/ds18010-890794.pdf?src-supplier=Digi-Key
footprint DIODE SOD123
pins: 1 K, 2 A

## DIODE ZENER 3.3V 250mW
designator D?  Zener Voltage: 3.3V
Zener Diode 3.3V 250mW ±6.06% Surface Mount SSD3; Manufacturer: Rohm; Manufacturer Part Number: BZX84C3V3LFHT116; Impedance: 95R; Mount: Surface Mount; Case/Package: TO-236-3; Packaging: Cut Tape; Tolerance: 6.06%; Max Power Dissipation: 250mW; ComponentLink1URL: http://www.farnell.com/datasheets/2328411.pdf?src-supplier=Farnell; ComponentLink1Description: http://www.farnell.com/datasheets/2328411.pdf?src-supplier=Farnell; ComponentLink2URL: http://rohmfs.rohm.com/en/techdata_basic/diode/taping/Taping_SSD3M_T116-e.pdf?src-supplier=Digi-Key; ComponentLink2Description: http://rohmfs.rohm.com/en/techdata_basic/diode/taping/Taping_SSD3M_T116-e.pdf?src-supplier=Digi-Key; ComponentLink3URL: https://www.rohm.com/datasheet/BZX84C3V3LFH/bzx84c3v3lfht116-e?src-supplier=Digi-Key; ComponentLink3Description: https://www.rohm.com/datasheet/BZX84C3V3LFH/bzx84c3v3lfht116-e?src-supplier=Digi-Key; Supplier Part Number 1: BZX84C3V3LFHT116CT-ND; Supplier 1: Digi-Key; Stock 1: 2960; RoHS: No; Pricing 1: 1=0.13000, 10=0.12200, 25=0.11600, 100=0.06630, 250=0.04912, 500=0.04078, 1000=0.02781 (USD)
footprint sot23 (SOT23, 3-Leads, Body 2.9x1.3mm, Pitch 0.95mm, Lead Span 2.3mm - Reverse Pinning, IPC Medium Density)
pins: 1 K, 2 NC hidden, 3 A

## DIODE ZENER 6.2V 5W DO214AA
designator D?  Voltage - Zener (Nom): 6.2V
Zener Diode 6.2V 5W ±5% Surface Mount DO-214AA (SMB); Manufacturer 1: Micro Commercial Co; Manufacturer Part Number 1: SMBJ5341B-TP; Current - Reverse Leakage @ Vr: 1µA @ 3V; Voltage - Forward (Vf) (Max) @ If: 1.2V @ 1A; Supplier 1: Digi-Key; Supplier Part Number 1: SMBJ5341B-TPMSCT-ND; Packaging: Cut Tape (CT); Part Status: Active; Operating Temperature: -55°C ~ 150°C; Mounting Type: Surface Mount; Package / Case: DO-214AA, SMB; Supplier Device Package: DO-214AA (SMB); ComponentLink1URL: http://www.mccsemi.com/up_pdf/SMBJ5338B-SMBJ5388B(SMB).pdf; ComponentLink1Description: http://www.mccsemi.com/up_pdf/SMBJ5338B-SMBJ5388B(SMB).pdf; Tolerance: ±5%
footprint DO-214AA Diode (Zener Diode 16V 5W SMBJ5353B-TP)
pins: 1 A, 2 K

## DIODE ZENER 6.8V 500MW SOD123
designator D?, comment 6.8V  Manufacturer Part Number: MMSZ5235B-7-F
Zener Diode 6.8V 500mW ±5% Surface Mount SOD-123; Manufacturer: Diodes Incorporated; Supplier 1: Digi-Key; RoHS: RoHS Compliant; Category: Discrete Semiconductor Products; Stock 1: 24231; Pricing 1: 1=0.35, 10=0.286, 100=0.1513, 500=0.09956, 1000=0.06769 (CAD); Packaging: Cut Tape (CT); Part Status: Active; Tolerance: ±5%; Operating Temperature: -65°C ~ 150°C; Mounting Type: Surface Mount; Package / Case: SOD-123; Supplier Device Package: SOD-123; Base Part Number: MMSZ5235B; ComponentLink1URL: https://www.diodes.com/assets/Datasheets/ds18010.pdf; ComponentLink1Description: https://www.diodes.com/assets/Datasheets/ds18010.pdf; Supplier Part Number 1: MMSZ5235B-FDICT-ND
footprint DIODE SOD123
pins: 1 K, 2 A

## DIODE ZENER 16V 5W DO-214AA (SMB)
designator D?  Voltage - Zener (Nom): 16V
Zener Diode 16V 5W ±5% Surface Mount DO-214AA (SMB); Manufacture: Micro Commercial Co; Manufacture Part Number: SMBJ5353B-TP; Impedence (Max): 2.5 Ohm; Voltage - Forward: 1.2V @ 1A; Power (Max): 5W; Supplier 1: Digi-Key; Supplier Part Number 1: SMBJ5353B-TPMSCT-ND
footprint DO-214AA Diode (Zener Diode 16V 5W SMBJ5353B-TP)
pins: 1 A, 2 K

## DIODE ZENER 16V 5W DO-214AA (SMB)_1
designator D?  Voltage - Zener (Nom): 16V
Zener Diode 16V 5W ±5% Surface Mount DO-214AA (SMB); Manufacture: Micro Commercial Co; Manufacture Part Number: SMBJ5353B-TP; Impedence (Max): 2.5 Ohm; Voltage - Forward: 1.2V @ 1A; Power (Max): 5W; Supplier 1: Digi-Key; Supplier Part Number 1: SMBJ5353B-TPMSCT-ND
footprint DO-214AA Diode (Zener Diode 16V 5W SMBJ5353B-TP)
pins: 1 A, 2 K

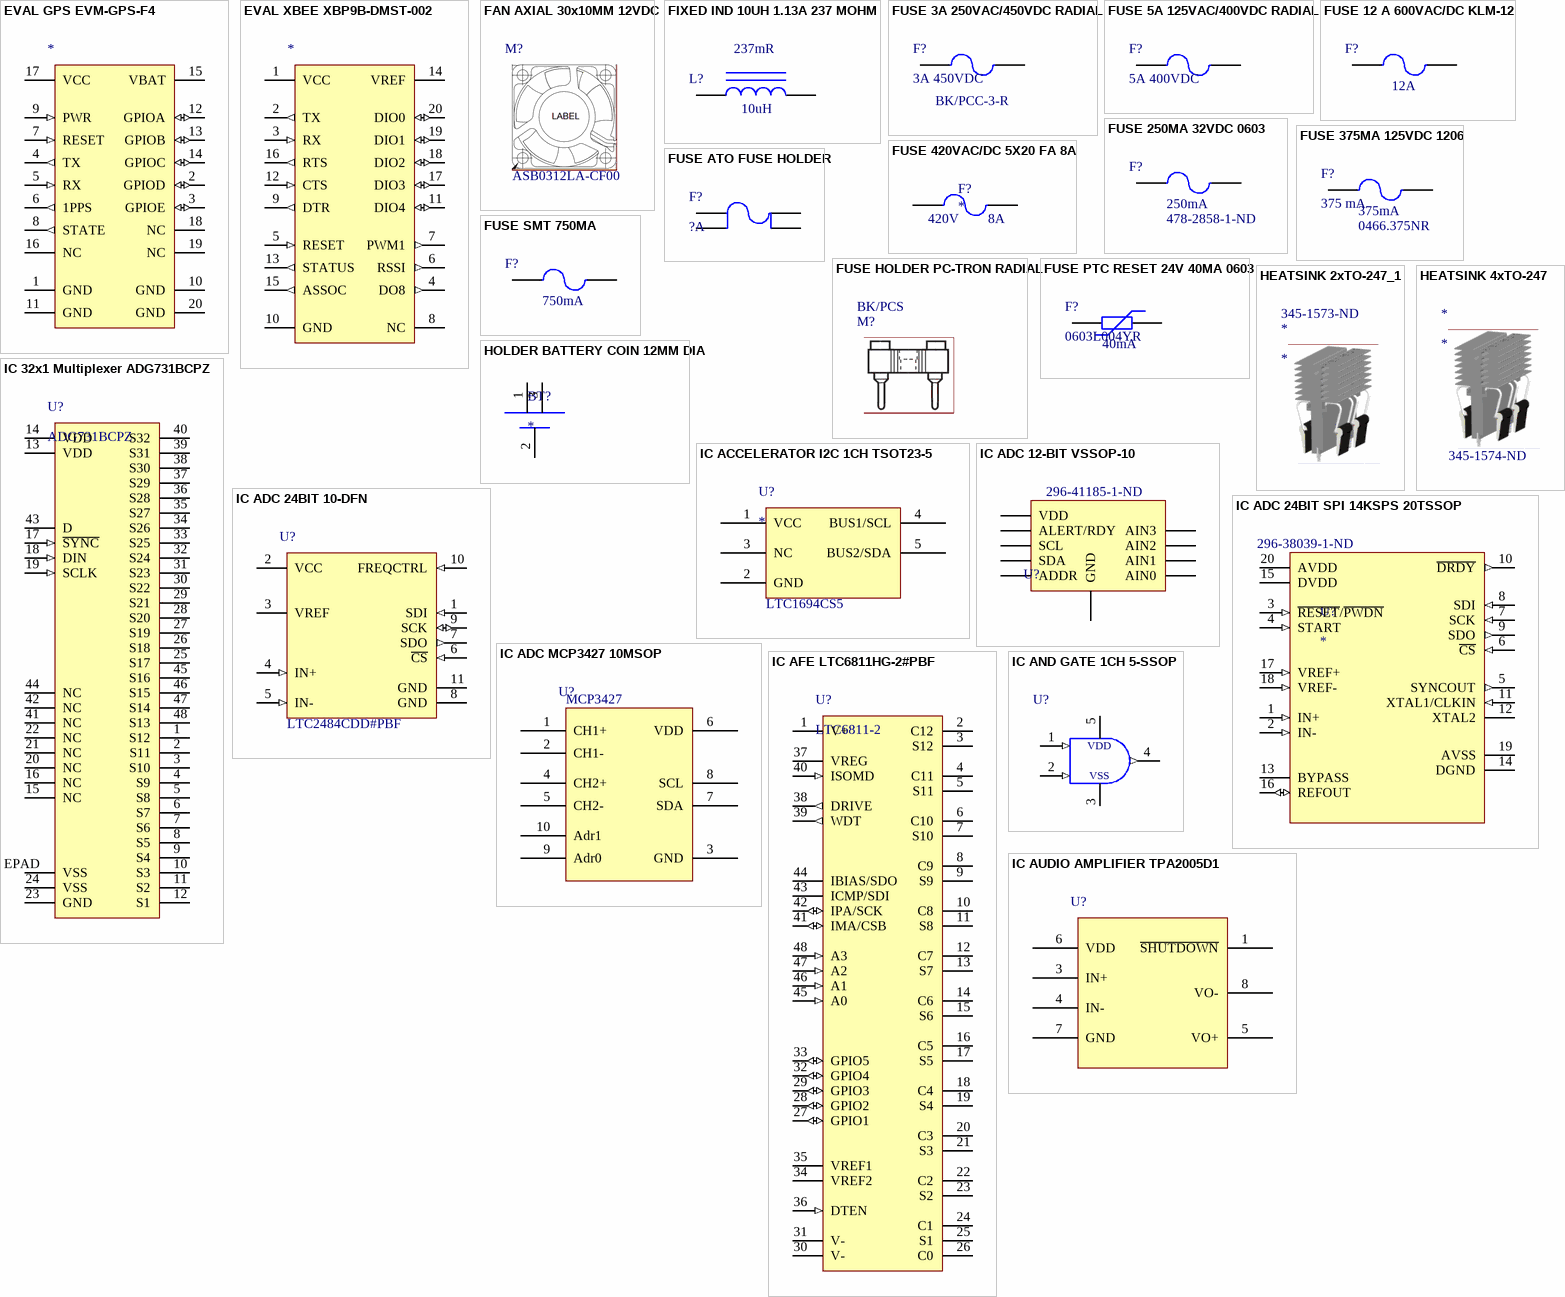
[diagram p3: symbols EVAL GPS EVM-GPS-F4 to IC AUDIO AMPLIFIER TPA2005D1]

## EVAL GPS EVM-GPS-F4
designator *
BOARD EVAL FOR RXM-GPS-F4; Manufacturer 1: Linx Technologies Inc.; Manufacturer Part Number 1: EVM-GPS-F4; Frequency: 1575.42MHz; Supplier 1: Digi-Key; Supplier Part Number 1: EVM-GPS-F4-ND; Part Status: Active; Type: GPS; For Use With/Related Products: RXM-GPS-F4; Supplied Contents: Board; ComponentLink1URL: https://www.linxtechnologies.com/resources/data-guides/man-evm-gps-f4.pdf; ComponentLink1Description: https://www.linxtechnologies.com/resources/data-guides/man-evm-gps-f4.pdf
pins: 1 GND (power), 2 GPIOD (io), 3 GPIOE (io), 4 TX (out), 5 RX (in), 6 1PPS (out), 7 RESET (in), 8 STATE (out), 9 PWR (in), 10 GND (power), 11 GND (power), 12 GPIOA (io), 13 GPIOB (io), 14 GPIOC (io), 15 VBAT (power), 16 NC, 17 VCC (power), 18 NC, 19 NC, 20 GND (power)

## EVAL XBEE XBP9B-DMST-002
designator *
RF TXRX MODULE ISM<1GHZ RP-SMA; Manufacturer 1: Digi International; Manufacturer Part Number 1: XBP9B-DMST-002; RF Family/Standard: General ISM < 1GHz; Modulation: FHSS; Frequency: 900MHz; Data Rate: 200kbps; Power - Output: 24dBm; Sensitivity: -110dBm; Serial Interfaces: SPI, UART; Antenna Type: Not Included, RP-SMA; Memory Size: 32kB Flash, 2kB RAM; Voltage - Supply: 2.4 V ~ 3.6 V; Current - Receiving: 44mA; Current - Transmitting: 229mA; Supplier 1: Digi-Key; Supplier Part Number 1: 602-1299-ND; Packaging: Bulk; Part Status: Active; Protocol: -; Mounting Type: Through Hole; Operating Temperature: -40°C ~ 85°C; Package / Case: Module; ComponentLink1URL: https://www.digi.com/pdf/ds_xbeepro900hp.pdf; ComponentLink1Description: https://www.digi.com/pdf/ds_xbeepro900hp.pdf
pins: 1 VCC (power), 2 TX (out), 3 RX (in), 4 DO8 (out) "Not Supported", 5 RESET (in), 6 RSSI (out) "RX Signal Strength Indicator", 7 PWM1 (out), 8 NC, 9 DTR (out), 10 GND, 11 DIO4 (io), 12 CTS (in), 13 STATUS (out), 14 VREF (power), 15 ASSOC (out) "Associated Indicator", 16 RTS (out), 17 DIO3 (io), 18 DIO2 (io), 19 DIO1 (io), 20 DIO0 (io)